# Altium footprint library ELCAP_HOR_D17_H30_P5.PcbLib: 1 footprints
Each footprint in its own frame and in the unit in brackets; x right, y up, seen from the top. Pads: shape width x height; smd on the part's side, far side on the other; paste and mask are expansions set on the pad; w line width, h text height; cw(c..) or ccw(c..) is an arc to the next point about the centre after c.
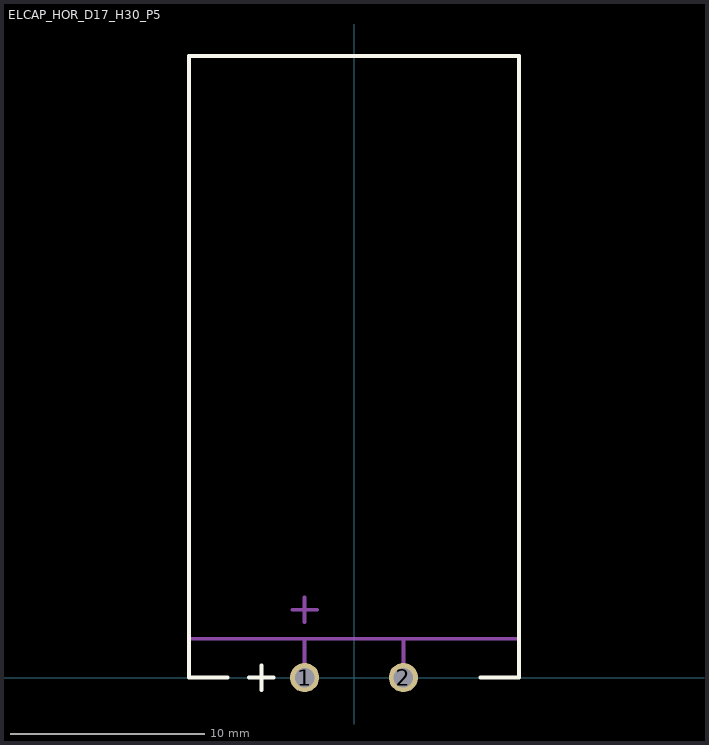
[diagram p0: the footprint, top view; thin cyan lines are the x and y axes]

## ELCAP_HOR_D17_H30_P5 [mm]
pads (2):
  round 1.5 hole 1: 1(-2.54,0) 2(2.54,0)
Top Overlay:
  lines w0.2: -6.5,0 -8.5,0 -8.5,32 8.5,32 8.5,0 6.5,0 ; -5.397,0 -4.127,0 ; -4.763,-0.635 -4.763,0.635
TopAssy:
  lines w0.2: -3.175,3.493 -1.905,3.493 ; -2.54,0 -2.54,1.905 ; -2.54,2.858 -2.54,4.128 ; 2.54,0 2.54,1.905 ; -8.5,2 -8.5,32 8.5,32 8.5,2 -8.5,2
3D body: height 6.5, standoff 0, extent -2.84,-0.297 -2.241,0.3
3D body: height 6.5, standoff 0, extent 2.24,-0.297 2.839,0.3
3D body: height 8.65, standoff 8.05, extent -2.839,0 -2.241,2
3D body: height 8.65, standoff 8.05, extent 2.241,0 2.839,2
3D body: height 17, standoff 0, extent -8.5,2.032 8.5,32.032